# Altium footprint library H204_.PcbLib: 39 footprints (part 1 of 3)
Each footprint in its own frame and in the unit in brackets; x right, y up, seen from the top. Pads: shape width x height; smd on the part's side, far side on the other; paste and mask are expansions set on the pad; w line width, h text height; cw(c..) or ccw(c..) is an arc to the next point about the centre after c.
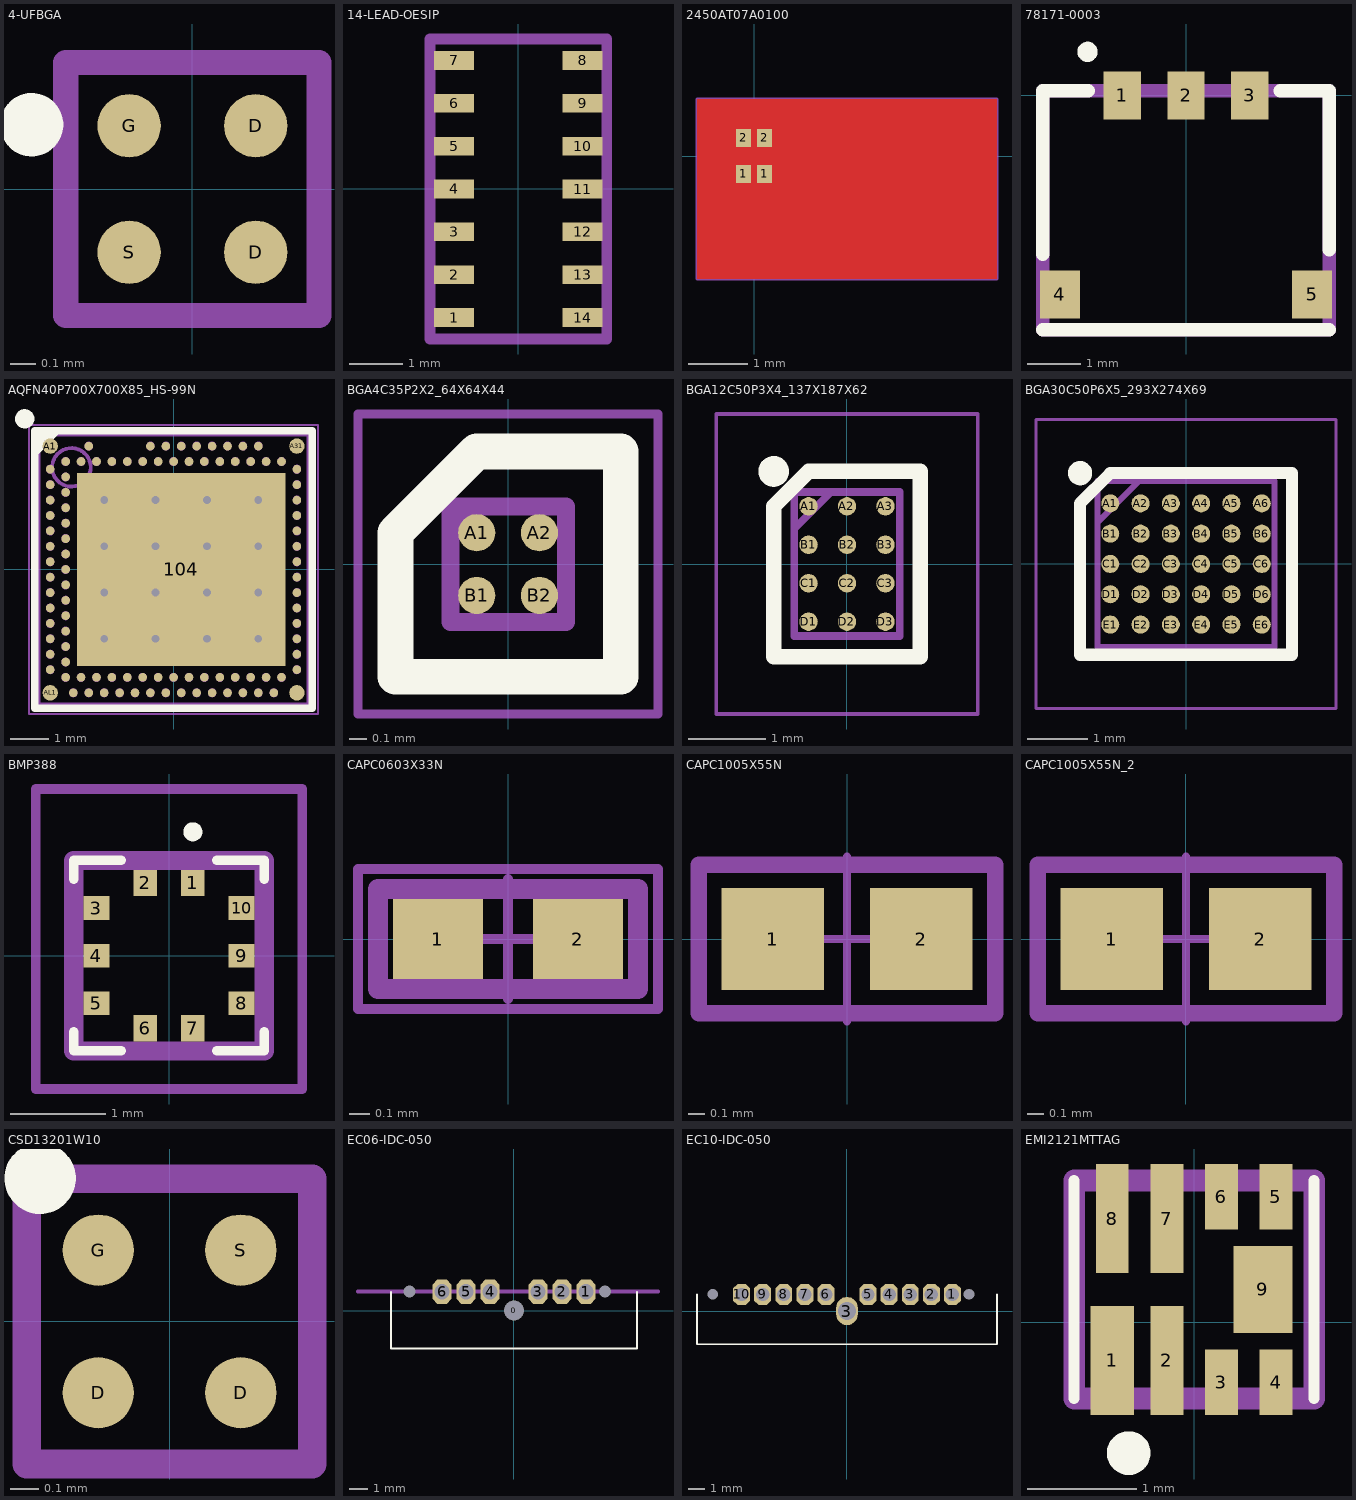
[diagram p0: the footprints below, top view; thin cyan lines are the x and y axes]

## 4-UFBGA [mm]
height 0.9
pads (4):
  round 0.25 smd: D(0.25,-0.25) D(0.25,0.25) G(-0.25,0.25) S(-0.25,-0.25)
Top Overlay:
  circle w0.15: c-0.635,0.254 r0.05
Mechanical 13:
  lines w0.1: -0.5,-0.5 -0.5,0.5 0.5,0.5 0.5,-0.5 -0.5,-0.5
3D body: height 0.4, standoff 0, extent -0.5,-0.5 0.5,0.5

## 14-LEAD-OESIP [mm]
height 0.4
pads (14):
  rect 0.75x0.35 smd: 1(-1.2,-2.4) 2(-1.2,-1.6) 3(-1.2,-0.8) 4(-1.2,0) 5(-1.2,0.8) 6(-1.2,1.6) 7(-1.2,2.4) 8(1.2,2.4) 9(1.2,1.6) 10(1.2,0.8) 11(1.2,0) 12(1.2,-0.8) 13(1.2,-1.6) 14(1.2,-2.4)
Bottom Overlay:
  circle w0.2: c-1.976,-2.445 r0.06
  lines w0.2: -1.65,-2.8 1.65,-2.8 ; -1.65,2.8 1.65,2.8
Mechanical 13:
  lines w0.2: -1.65,-2.8 -1.65,2.8 1.65,2.8 1.65,-2.8 -1.65,-2.8
3D body "MAX30101EFD+.stp": height -0.07, standoff -1.4, extent -1.46,-2.8 1.34,2.8

## 2450AT07A0100 [mm] "2.4GHz Bluetooth, WLAN, Zigbee™ Chip RF Antenna 2.4GHz ~ 2.48GHz -2dBi Solder Surface Mount"
pads (4):
  rect 0.25x0.3 smd: 1(-0.175,-0.3) 1(0.175,-0.3) 2(-0.175,0.3) 2(0.175,0.3)
Top Layer:
  rectangle: 0.05,0.15 4.05,0.85
  rectangle: -0.95,-0.85 0.55,-0.15
  rectangle: -0.95,0.15 -0.05,0.85
  pour cut-out: -0.95,0.95 -0.95,-2.05 4.05,-2.05 4.05,0.95
Mechanical 1:
  lines w0.05: -0.95,-2.05 -0.95,0.95 4.05,0.95 4.05,-2.05 -0.95,-2.05 ; -0.25,-0.5 0.25,-0.5 0.25,0.5 -0.25,0.5 -0.25,-0.5
3D body: height 0.37, standoff 0, extent -0.25,-0.5 0.25,0.5

## 78171-0003 [mm]
height 0.9
pads (5):
  rect 0.7x0.9 smd: 1(-1.2,0) 2(0,0) 3(1.2,0)
  rect 0.75x0.9 smd: 4(-2.375,-3.75) 5(2.375,-3.75)
Top Overlay:
  circle w0.254: c-1.854,0.82 r0.063
  lines w0.254: -2.7,-4.41 2.7,-4.41 ; -2.7,-2.989 -2.7,0.09 -1.84,0.09 ; 1.772,0.09 2.7,0.09 2.7,-2.904
Mechanical 13:
  lines w0.254: -2.7,-4.41 2.7,-4.41 2.7,0.09 -2.7,0.09 -2.7,-4.41
3D body "78171-0003.stp": height 1.45, standoff 0, extent -2.7,-4.12 2.7,0.41

## AQFN40P700X700X85_HS-99N [mm] "AQFN, 98-Leads, Body 7.00x7.00mm, Pitch 0.40mm, Thermal Pad 5.4x5.0mm, IPC Medium Density"
height 0.85
pads (115):
  rect 5.4x5 smd paste-5 mask+0.05: 104(0.2,0)
  round 0.4 smd paste+0.012 mask+0.05: A1(-3.2,3.2) A31(3.2,3.2) AL1(-3.2,-3.2) AL31(3.2,-3.2)
  round 0.225 smd paste+0.012 mask+0.05: A5(-2.2,3.2) A13(-0.6,3.2) A15(-0.2,3.2) A17(0.2,3.2) A19(0.6,3.2) A21(1,3.2) A23(1.4,3.2) A25(1.8,3.2) A27(2.2,3.2) AA1(-3.2,-1) AA31(3.2,-1) AB2(-2.8,-1.2) AC1(-3.2,-1.4) AC31(3.2,-1.4) AD2(-2.8,-1.6) AE1(-3.2,-1.8) AE31(3.2,-1.8) AF2(-2.8,-2) AG1(-3.2,-2.2) AG31(3.2,-2.2) AH2(-2.8,-2.4) AJ1(-3.2,-2.6) AJ31(3.2,-2.6) AK2(-2.8,-2.8) AK4(-2.4,-2.8) AK6(-2,-2.8) AK8(-1.6,-2.8) AK10(-1.2,-2.8) AK12(-0.8,-2.8) AK14(-0.4,-2.8) AK16(0,-2.8) AK18(0.4,-2.8) AK20(0.8,-2.8) AK22(1.2,-2.8) AK24(1.6,-2.8) AK26(2,-2.8) AK28(2.4,-2.8) AK30(2.8,-2.8) AL3(-2.6,-3.2) AL5(-2.2,-3.2) AL7(-1.8,-3.2) AL9(-1.4,-3.2) AL11(-1,-3.2) AL13(-0.6,-3.2) AL15(-0.2,-3.2) AL17(0.2,-3.2) AL19(0.6,-3.2) AL21(1,-3.2) AL23(1.4,-3.2) AL25(1.8,-3.2) AL27(2.2,-3.2) AL29(2.6,-3.2) B2(-2.8,2.8) B4(-2.4,2.8) B6(-2,2.8) B8(-1.6,2.8) B10(-1.2,2.8) B12(-0.8,2.8) B14(-0.4,2.8) B16(0,2.8) B18(0.4,2.8) B20(0.8,2.8) B22(1.2,2.8) B24(1.6,2.8) B26(2,2.8) B28(2.4,2.8) B30(2.8,2.8) C1(-3.2,2.6) C31(3.2,2.6) D2(-2.8,2.4) E1(-3.2,2.2) E31(3.2,2.2) F2(-2.8,2) G1(-3.2,1.8) G31(3.2,1.8) H2(-2.8,1.6) J1(-3.2,1.4) J31(3.2,1.4) K2(-2.8,1.2) L1(-3.2,1) L31(3.2,1) M2(-2.8,0.8) N1(-3.2,0.6) N31(3.2,0.6) P2(-2.8,0.4) R1(-3.2,0.2) R31(3.2,0.2) T2(-2.8,0) U1(-3.2,-0.2) U31(3.2,-0.2) V2(-2.8,-0.4) W1(-3.2,-0.6) W31(3.2,-0.6) Y2(-2.8,-0.8)
  rrect50% 1.1x1 on Top Paste: ""(-1.75,-1.8) ""(-1.75,-0.6) ""(-1.75,0.6) ""(-1.75,1.8) ""(-0.45,-1.8) ""(-0.45,-0.6) ""(-0.45,0.6) ""(-0.45,1.8) ""(0.85,1.8) ""(0.85,-1.8) ""(0.85,-0.6) ""(0.85,0.6) ""(2.15,1.8) ""(2.15,-1.8) ""(2.15,-0.6) ""(2.15,0.6)
via -1.8,1.8 diameter 0.45 hole 0.2
via -0.467,1.8 diameter 0.45 hole 0.2
via 0.867,1.8 diameter 0.45 hole 0.2
via 2.2,1.8 diameter 0.45 hole 0.2
via -1.8,0.6 diameter 0.45 hole 0.2
via -0.467,0.6 diameter 0.45 hole 0.2
via 0.867,0.6 diameter 0.45 hole 0.2
via 2.2,0.6 diameter 0.45 hole 0.2
via -1.8,-0.6 diameter 0.45 hole 0.2
via -0.467,-0.6 diameter 0.45 hole 0.2
via 0.867,-0.6 diameter 0.45 hole 0.2
via 2.2,-0.6 diameter 0.45 hole 0.2
via -1.8,-1.8 diameter 0.45 hole 0.2
via -0.467,-1.8 diameter 0.45 hole 0.2
via 0.867,-1.8 diameter 0.45 hole 0.2
via 2.2,-1.8 diameter 0.45 hole 0.2
Top Overlay:
  circle w0.25: c-3.862,3.908 r0.125
  region: -3,3.5 -3.5,3 -3.5,3.5
  lines w0.2: -3.6,-3.6 -3.6,3.6 3.6,3.6 3.6,-3.6 -3.6,-3.6
Mechanical 5:
  drawing of 564 lines, arcs and shapes, not listed
  text "AG1" at -3.541,-2.24 h0.08
  text "AJ1" at -3.541,-2.64 h0.08
  text "AH2" at -3.208,-2.44 h0.08
  text "AK4" at -2.508,-3.039 h0.08
  text "AL5" at -2.315,-3.439 h0.08
  text "AK2" at -2.908,-3.013 h0.08
  text "AL3" at -2.715,-3.439 h0.08
  text "V2" at -3.128,-0.44 h0.08
  text "U1" at -3.469,-0.24 h0.08
  text "Y2" at -3.128,-0.84 h0.08
  text "AA1" at -3.534,-1.04 h0.08
  text "W1" at -3.469,-0.64 h0.08
  text "AD2" at -3.208,-1.64 h0.08
  text "AC1" at -3.541,-1.44 h0.08
  text "AE1" at -3.521,-1.84 h0.08
  text "AB2" at -3.208,-1.24 h0.08
  text "H2" at -3.128,1.56 h0.08
  text "J1" at -3.469,1.36 h0.08
  text "G1" at -3.469,1.76 h0.08
  text "M2" at -3.128,0.76 h0.08
  text "L1" at -3.489,0.96 h0.08
  text "P2" at -3.128,0.36 h0.08
  text "R1" at -3.456,0.16 h0.08
  text "N1" at -3.449,0.56 h0.08
  text "K2" at -3.128,1.16 h0.08
  text "D2" at -3.128,2.36 h0.08
  text "E1" at -3.449,2.16 h0.08
  text "C1" at -3.469,2.56 h0.08
  text "B4" at -2.469,2.961 h0.08
  text "A5" at -2.272,3.361 h0.08
  text "B2" at -2.853,2.947 h0.08
  text "AK14" at -0.538,-3.039 h0.08
  text "AL13" at -0.744,-3.439 h0.08
  text "AK10" at -1.338,-3.04 h0.08
  text "AL11" at -1.144,-3.439 h0.08
  text "AK12" at -0.938,-3.039 h0.08
  text "AK8" at -1.708,-3.039 h0.08
  text "AL7" at -1.915,-3.439 h0.08
  text "AL9" at -1.544,-3.439 h0.08
  text "AL15" at -0.344,-3.439 h0.08
  text "B14" at -0.498,2.961 h0.08
  text "A13" at -0.702,3.36 h0.08
  text "B10" at -1.298,2.961 h0.08
  text "B12" at -0.898,2.961 h0.08
  text "B8" at -1.669,2.961 h0.08
  text "A15" at -0.302,3.361 h0.08
  text "AK24" at 1.462,-3.039 h0.08
  text "AL23" at 1.256,-3.439 h0.08
  text "AL25" at 1.656,-3.439 h0.08
  text "AK20" at 0.662,-3.04 h0.08
  text "AL21" at 0.856,-3.439 h0.08
  text "AK18" at 0.262,-3.039 h0.08
  text "AL17" at 0.056,-3.439 h0.08
  text "AL19" at 0.456,-3.439 h0.08
  text "AK22" at 1.062,-3.039 h0.08
  text "B24" at 1.502,2.961 h0.08
  text "A23" at 1.298,3.36 h0.08
  text "A25" at 1.698,3.361 h0.08
  text "B20" at 0.702,2.961 h0.08
  text "A21" at 0.898,3.36 h0.08
  text "B18" at 0.302,2.961 h0.08
  text "A17" at 0.098,3.361 h0.08
  text "A19" at 0.498,3.361 h0.08
  text "B22" at 1.102,2.961 h0.08
  text "AL29" at 2.456,-3.439 h0.08
  text "AL27" at 2.056,-3.439 h0.08
  text "AK28" at 2.262,-3.039 h0.08
  text "AG31" at 3.322,-2.24 h0.08
  text "AJ31" at 3.322,-2.64 h0.08
  text "AK30" at 2.662,-3.039 h0.08
  text "U31" at 3.322,-0.24 h0.08
  text "AA31" at 3.322,-1.04 h0.08
  text "W31" at 3.322,-0.64 h0.08
  text "AC31" at 3.322,-1.44 h0.08
  text "AE31" at 3.322,-1.84 h0.08
  text "J31" at 3.322,1.36 h0.08
  text "G31" at 3.322,1.76 h0.08
  text "L31" at 3.322,0.96 h0.08
  text "R31" at 3.322,0.16 h0.08
  text "N31" at 3.322,0.56 h0.08
  text "E31" at 3.322,2.16 h0.08
  text "C31" at 3.322,2.56 h0.08
  text "B30" at 2.702,2.961 h0.08
  text "A27" at 2.098,3.361 h0.08
  text "B28" at 2.302,2.961 h0.08
  text "AF2" at -3.208,-2.04 h0.08
  text "F2" at -3.128,1.96 h0.08
  text "T2" at -3.128,-0.04 h0.08
  text "AK6" at -2.108,-3.039 h0.08
  text "B6" at -2.069,2.961 h0.08
  text "AK26" at 1.862,-3.039 h0.08
  text "AK16" at -0.138,-3.039 h0.08
  text "B26" at 1.902,2.961 h0.08
  text "B16" at -0.098,2.961 h0.08
Mechanical 7:
  circle w0.1: c-2.65,2.65 r0.5
  lines w0.1: -3.5,-3.5 3.5,-3.5 3.5,3.5 -3.5,3.5 -3.5,-3.5
  text ".Designator" at -3.2,-0.3 h0.64
Mechanical 15:
  lines w0.05: -3.75,-3.75 3.75,-3.75 3.75,3.75 -3.75,3.75 -3.75,-3.75
  lines w0.1: -0.3,0 0.7,0 ; 0.2,-0.5 0.2,0.5
3D body "aQFN-116 (7x7).step": height 0.85, standoff -0.05, extent -3.5,-3.5 3.5,3.5

## BGA4C35P2X2_64X64X44 [mm]
height 0.9
pads (4):
  round 0.208 smd: A1(-0.175,0.175) A2(0.175,0.175) B1(-0.175,-0.175) B2(0.175,-0.175)
Top Overlay:
  lines w0.2: -0.629,-0.629 -0.629,0.175 -0.175,0.629 0.629,0.629 0.629,-0.629 -0.629,-0.629
Mechanical 13:
  lines w0.1: -0.322,0.154 -0.153,0.323 ; -0.322,-0.323 -0.322,0.322 0.323,0.322 0.323,-0.323 -0.322,-0.323
Mechanical 15:
  lines w0.05: -0.838,-0.837 -0.838,0.838 0.837,0.838 0.837,-0.837 -0.838,-0.837
3D body "LP5907UVX-1.6_NOPB.stp": height 0.45, standoff 0, extent -0.323,-0.322 0.323,0.323

## BGA12C50P3X4_137X187X62 [mm]
height 0.9
pads (12):
  round 0.24 smd: A1(-0.5,0.75) A2(0,0.75) A3(0.5,0.75) B1(-0.5,0.25) B2(0,0.25) B3(0.5,0.25) C1(-0.5,-0.25) C2(0,-0.25) C3(0.5,-0.25) D1(-0.5,-0.75) D2(0,-0.75) D3(0.5,-0.75)
Top Overlay:
  circle w0.2: c-0.954,1.204 r0.1
  lines w0.2: -0.954,-1.204 -0.954,0.75 -0.5,1.204 0.954,1.204 0.954,-1.204 -0.954,-1.204
Mechanical 13:
  lines w0.1: -0.685,0.46 -0.21,0.935 ; -0.685,-0.935 -0.685,0.935 0.685,0.935 0.685,-0.935 -0.685,-0.935
Mechanical 15:
  lines w0.05: -1.7,-1.95 -1.7,1.95 1.7,1.95 1.7,-1.95 -1.7,-1.95
3D body "PI4ULS3V204GAEX.stp": height 0.63, standoff 0, extent -0.685,-0.935 0.685,0.935

## BGA30C50P6X5_293X274X69 [mm]
height 0.9
pads (30):
  round 0.298 smd: A1(-1.25,1) A2(-0.75,1) A3(-0.25,1) A4(0.25,1) A5(0.75,1) A6(1.25,1) B1(-1.25,0.5) B2(-0.75,0.5) B3(-0.25,0.5) B4(0.25,0.5) B5(0.75,0.5) B6(1.25,0.5) C1(-1.25,0) C2(-0.75,0) C3(-0.25,0) C4(0.25,0) C5(0.75,0) C6(1.25,0) D1(-1.25,-0.5) D2(-0.75,-0.5) D3(-0.25,-0.5) D4(0.25,-0.5) D5(0.75,-0.5) D6(1.25,-0.5) E1(-1.25,-1) E2(-0.75,-1) E3(-0.25,-1) E4(0.25,-1) E5(0.75,-1) E6(1.25,-1)
Top Overlay:
  circle w0.2: c-1.749,1.499 r0.1
  lines w0.2: -1.749,-1.499 -1.749,1 -1.25,1.499 1.749,1.499 1.749,-1.499 -1.749,-1.499
Mechanical 13:
  lines w0.1: -1.463,0.679 -0.772,1.37 ; -1.463,-1.37 -1.463,1.37 1.463,1.37 1.463,-1.37 -1.463,-1.37
Mechanical 15:
  lines w0.05: -2.476,-2.383 -2.476,2.382 2.475,2.382 2.475,-2.383 -2.476,-2.383
3D body "MAX30001CWV+.stp": height 0.69, standoff 0, extent -1.463,-1.37 1.463,1.37

## BMP388 [mm]
pads (10):
  rect 0.25x0.275 smd: 1(0.25,0.763) 2(-0.25,0.763) 6(-0.25,-0.763) 7(0.25,-0.763)
  rect 0.275x0.25 smd: 3(-0.762,0.5) 4(-0.762,0) 5(-0.762,-0.5) 8(0.762,-0.5) 9(0.762,0) 10(0.762,0.5)
Top Overlay:
  lines w0.1: -1,-0.8 -1,-1 -0.5,-1 ; -1,0.8 -1,1 -0.5,1 ; 0.5,-1 1,-1 1,-0.8 ; 0.5,1 1,1 1,0.8 ; 0.2,1.3 ccw(c0.25,1.3) 0.3,1.3 ccw(c0.25,1.3) 0.2,1.3
Mechanical 13:
  lines w0.2: -1,-1 -1,1 1,1 1,-1 -1,-1
Mechanical 15:
  lines w0.1: -1.4,-1.4 -1.4,1.75 1.4,1.75 1.4,-1.4 -1.4,-1.4
3D body "BMP388--3DModel-STEP-56544.STEP": height 0.8, standoff 0, extent -1,-1 1,1

## CAPC0603X33N [mm] "Chip Capacitor, EIA 0201, Metric 0603, Body 0.6x0.30mm, IPC Medium Density"
height 0.33
pads (2):
  rect 0.45x0.4 smd: 1(-0.35,0) 2(0.35,0)
Mechanical 14:
  lines w0.1: -0.65,-0.25 -0.65,0.25 0.65,0.25 0.65,-0.25 -0.65,-0.25
Mechanical 15:
  lines w0.05: -0.3,0 0.3,0 ; 0,-0.3 0,0.3 ; -0.75,-0.35 -0.75,0.35 0.75,0.35 0.75,-0.35 -0.75,-0.35
3D body "CAPC0603X33N.stp": height 0.33, standoff 0, extent -0.315,-0.165 0.315,0.165

## CAPC1005X55N [mm] "Chip Capacitor, Body 1.0x0.55mm, IPC Medium Density"
height 0.55
pads (2):
  rect 0.62x0.62 smd: 1(-0.45,0) 2(0.45,0)
Mechanical 14:
  lines w0.1: -0.9,-0.45 -0.9,0.45 0.9,0.45 0.9,-0.45 -0.9,-0.45
Mechanical 15:
  lines w0.05: -0.5,0 0.5,0 ; 0,-0.5 0,0.5 ; -0.91,-0.46 -0.91,0.46 0.91,0.46 0.91,-0.46 -0.91,-0.46
3D body "CAPC1005X55N.stp": height 0.55, standoff 0, extent -0.525,-0.275 0.525,0.275

## CAPC1005X55N_2 [mm]
pads (2):
  rect 0.62x0.62 smd: 1(-0.45,0) 2(0.45,0)
Mechanical 14:
  lines w0.1: -0.9,-0.45 0.9,-0.45 0.9,0.45 -0.9,0.45 -0.9,-0.45
Mechanical 15:
  lines w0.05: -0.5,0 0.5,0 ; 0,-0.5 0,0.5 ; -0.91,-0.46 0.91,-0.46 0.91,0.46 -0.91,0.46 -0.91,-0.46
3D body "CAPC1005X55N.stp": height 0.55, standoff 0, extent -0.525,-0.275 0.525,0.275

## CSD13201W10 [mm]
height 0.9
pads (4):
  round 0.25 smd: D(-0.25,-0.25) D(0.25,-0.25) G(-0.25,0.25) S(0.25,0.25)
Top Overlay:
  circle w0.15: c-0.454,0.502 r0.05
Mechanical 13:
  lines w0.1: -0.5,-0.5 0.5,-0.5 0.5,0.5 -0.5,0.5 -0.5,-0.5
3D body: height 0.62, standoff 0, extent -0.5,-0.5 0.5,0.5

## EC06-IDC-050 [mm]
height 0.4
pads (9):
  round 0.32 hole 0.64 unplated: 0(-5.54,1) 0(4.81,1)
  round 0.535 hole 1.07 unplated: 0(0,0)
  oct 1.02x1.28 hole 0.8: 1(3.81,1) 2(2.54,1) 3(1.27,1) 4(-1.27,1) 5(-2.54,1) 6(-3.81,1)
Top Overlay:
  lines w0.1: -6.5,-2 -6.5,1 ; -6.477,-2 6.477,-2 ; 6.5,-2 6.5,1
Mechanical 13:
  lines w0.2: -8.255,1.016 7.62,1.016

## EC10-IDC-050 [mm]
height 0.4
pads (13):
  round 0.32 hole 0.64 unplated: 0(-8.08,1) 0(7.35,1)
  oct 1.02x1.28 hole 0.8: 1(6.35,1) 2(5.08,1) 3(3.81,1) 4(2.54,1) 5(1.27,1) 6(-1.27,1) 7(-2.54,1) 8(-3.81,1) 9(-5.08,1) 10(-6.35,1)
  oval 1.3x1.7 / inner round 1.3 / far side oval 1.3x1.7 hole 1.07: 3(0,0)
Top Overlay:
  lines w0.1: -9.04,1 -9.04,-2 9.04,-2 9.04,1

## EMI2121MTTAG [mm]
height 0.8
pads (9):
  rect 0.4x1 smd: 1(-0.75,-0.35)
  rect 0.3x1 smd: 2(-0.25,-0.35) 7(-0.25,0.95) 8(-0.75,0.95)
  rect 0.3x0.6 smd: 3(0.25,-0.55) 4(0.75,-0.55) 5(0.75,1.15) 6(0.25,1.15)
  rect 0.54x0.8 smd: 9(0.63,0.3)
Top Overlay:
  lines w0.1: -1.1,-0.7 -1.1,1.3 ; 1.1,-0.7 1.1,1.3
  lines w0.2: -0.6,-1.3 ccw(c-0.6,-1.2) -0.6,-1.1 ccw(c-0.6,-1.2) -0.6,-1.3
Mechanical 13:
  lines w0.2: -1.1,-0.7 1.1,-0.7 1.1,1.3 -1.1,1.3 -1.1,-0.7
3D body: height 0.8, standoff 0, extent -1.1,-0.7 1.1,1.3